# Altium schematic symbol library TSM102C3.Schlib: 1 symbol
Pins are listed as number, name and electrical type; pins without a type are passive.

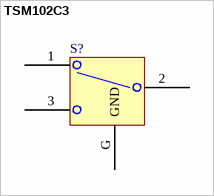
[diagram p0: symbol TSM102C3]

## TSM102C3
designator S?  (value not drawn)
pins: 1, 2, 3, G GND